# EAGLE library part ADS1115 (library ADS1115)
ADAFRUIT INDUSTRIES - ADS1115 - 16 BID ADC- 4 CHANNEL PROGRAMMABLE Source: Datasheet <https://cdn-learn.adafruit.com/downloads/pdf/adafruit-4-channel-adc-breakouts.pdf>
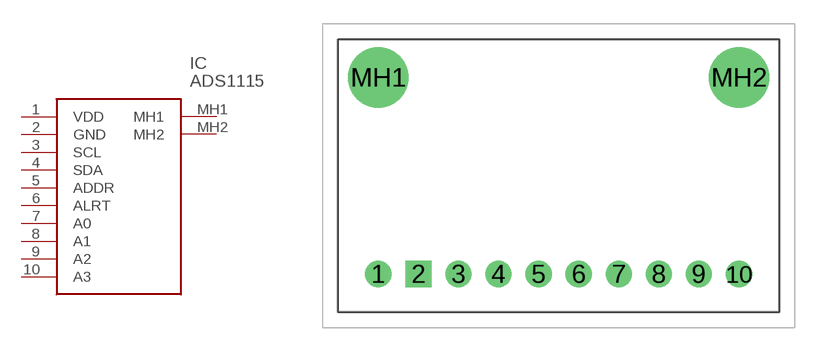
[diagram p0: symbol with the pads of ADS1115; footprint ADS1115]

Designator prefix IC

## ADS1115 (DESCRIPTION: ADAFRUIT INDUSTRIES - ADS1115 - 16 BID ADC- 4 CHANNEL PROGRAMMABLE; HEIGHT: 3.25mm; MANUFACTURER_NAME: Adafruit; MANUFACTURER_PART_NUMBER: ADS1115)  [ADS1115]
1  VDD  sup
2  GND  pwr
3  SCL  in
4  SDA
5  ADDR  in
6  ALRT
7  A0  in
8  A1  in
9  A2  in
10  A3  in
MH1  MH1
MH2  MH2

## Footprint ADS1115 (pad centres in mm)
ADS1115-2
drill 1.11 pad 1.665: 1 0,0; 3 5.08,0; 4 7.62,0; 5 10.16,0; 6 12.7,0; 7 15.24,0; 8 17.78,0; 9 20.32,0; 10 22.86,0
drill 1.11 pad 1.665 square: 2 2.54,0
drill 2.54 pad 3.81: MH1 0,12.446; MH2 22.86,12.446